# Altium footprint library American Technical Ceramics.PcbLib: 3 footprints
Each footprint in its own frame and in the unit in brackets; x right, y up, seen from the top. Pads: shape width x height; smd on the part's side, far side on the other; paste and mask are expansions set on the pad; w line width, h text height; cw(c..) or ccw(c..) is an arc to the next point about the centre after c.
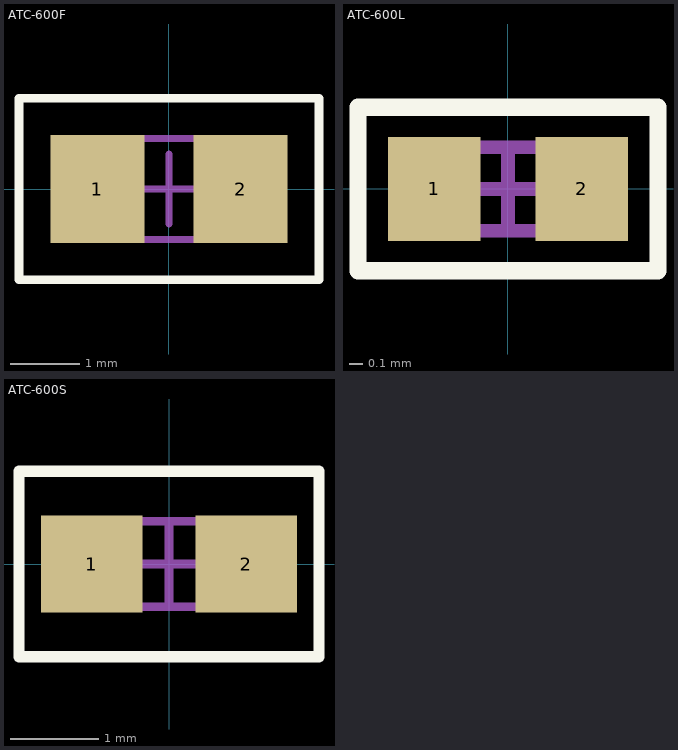
[diagram p0: the footprints below, top view; thin cyan lines are the x and y axes]

## ATC-600F [mm] "Chip Capacitor, 2-Leads, Body 2.01x1.24mm, IPC Low Density"
height 1.3
pads (2):
  rect 1.35x1.55 smd: 1(-1.025,0) 2(1.025,0)
Top Overlay:
  lines w0.127: -2.15,-1.3 2.15,-1.3 2.15,1.3 -2.15,1.3 -2.15,-1.3
Mechanical 13:
  lines w0.1: -1.105,-0.725 -1.105,0.725 1.105,0.725 1.105,-0.725 -1.105,-0.725
Mechanical 15:
  lines w0.1: -0.5,0 0.5,0 ; 0,-0.5 0,0.5
3D body "ATC-600F.step": height 1.3, standoff 0, extent -1.105,-0.725 1.105,0.725

## ATC-600L [mm] "Chip Capacitor, 2-Leads, Body 1.02x0.51mm, IPC Low Density"
height 0.61
pads (2):
  rect 0.68x0.76 smd: 1(-0.54,0) 2(0.54,0)
Top Overlay:
  lines w0.127: -1.1,-0.6 -1.1,0.6 1.1,0.6 1.1,-0.6 -1.1,-0.6
Mechanical 13:
  lines w0.1: -0.56,-0.305 -0.56,0.305 0.56,0.305 0.56,-0.305 -0.56,-0.305
Mechanical 15:
  lines w0.05: -1.1,-0.6 1.1,-0.6 1.1,0.6 -1.1,0.6 -1.1,-0.6
  lines w0.1: -0.305,0 0.305,0 ; 0,-0.305 0,0.305
3D body "ATC-600L.step": height 0.61, standoff 0, extent -0.56,-0.305 0.56,0.305

## ATC-600S [mm] "Chip Capacitor, 2-Leads, Body 1.60x0.81mm, IPC Low Density"
height 0.89
pads (2):
  rect 1.15x1.1 smd: 1(-0.875,0) 2(0.875,0)
Top Overlay:
  lines w0.127: -1.7,-1.05 -1.7,1.05 1.7,1.05 1.7,-1.05 -1.7,-1.05
Mechanical 13:
  lines w0.1: -0.875,-0.485 0.875,-0.485 0.875,0.485 -0.875,0.485 -0.875,-0.485
Mechanical 15:
  lines w0.05: -1.7,-1.05 1.7,-1.05 1.7,1.05 -1.7,1.05 -1.7,-1.05
  lines w0.1: -0.485,0 0.485,0 ; 0,-0.485 0,0.485
3D body "ATC-600S.step": height 0.89, standoff 0, extent -0.875,-0.485 0.875,0.485